# Altium schematic symbol library CA_NONPOL.Schlib: 1 symbol
Pins are listed as number, name and electrical type; pins without a type are passive.

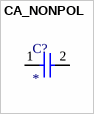
[diagram p0: symbol CA_NONPOL]

## CA_NONPOL
designator C?
pins: 1, 2